# Altium footprint library S2B-PH-SM4.PcbLib: 1 footprints
Each footprint in its own frame and in the unit in brackets; x right, y up, seen from the top. Pads: shape width x height; smd on the part's side, far side on the other; paste and mask are expansions set on the pad; w line width, h text height; cw(c..) or ccw(c..) is an arc to the next point about the centre after c.
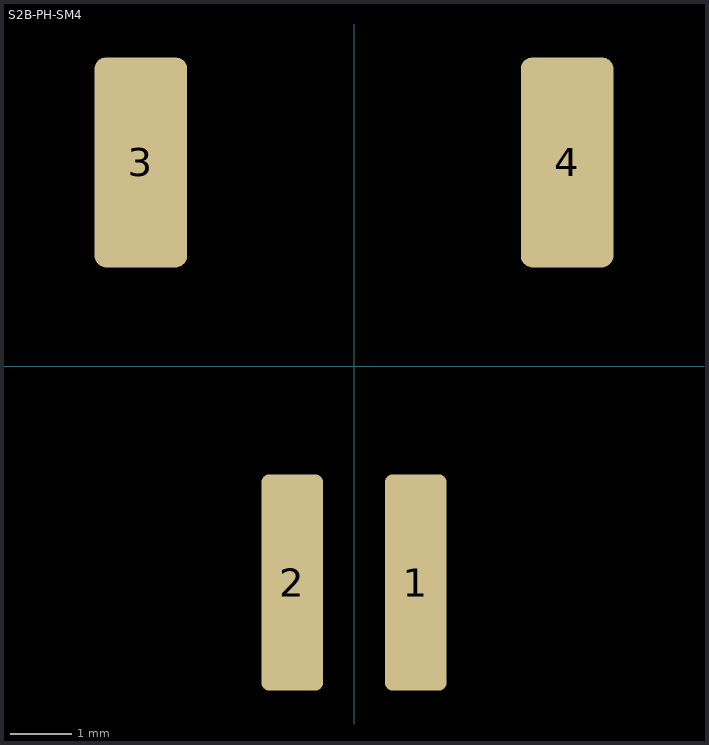
[diagram p0: the footprint, top view; thin cyan lines are the x and y axes]

## S2B-PH-SM4 [mm] "2-pin JST PH side-entry SMT"
pads (4):
  rrect25% 1x3.5 smd: 1(1,-3.5) 2(-1,-3.5)
  rrect25% 1.5x3.4 smd: 3(-3.45,3.3) 4(3.45,3.3)
3D body: height 5.5, standoff -0.1, extent -3.9,-4.3 4,4.3